# Altium integrated library Linear Technology Power Management Power Control.IntLib: 661 symbols (part 41 of 43)
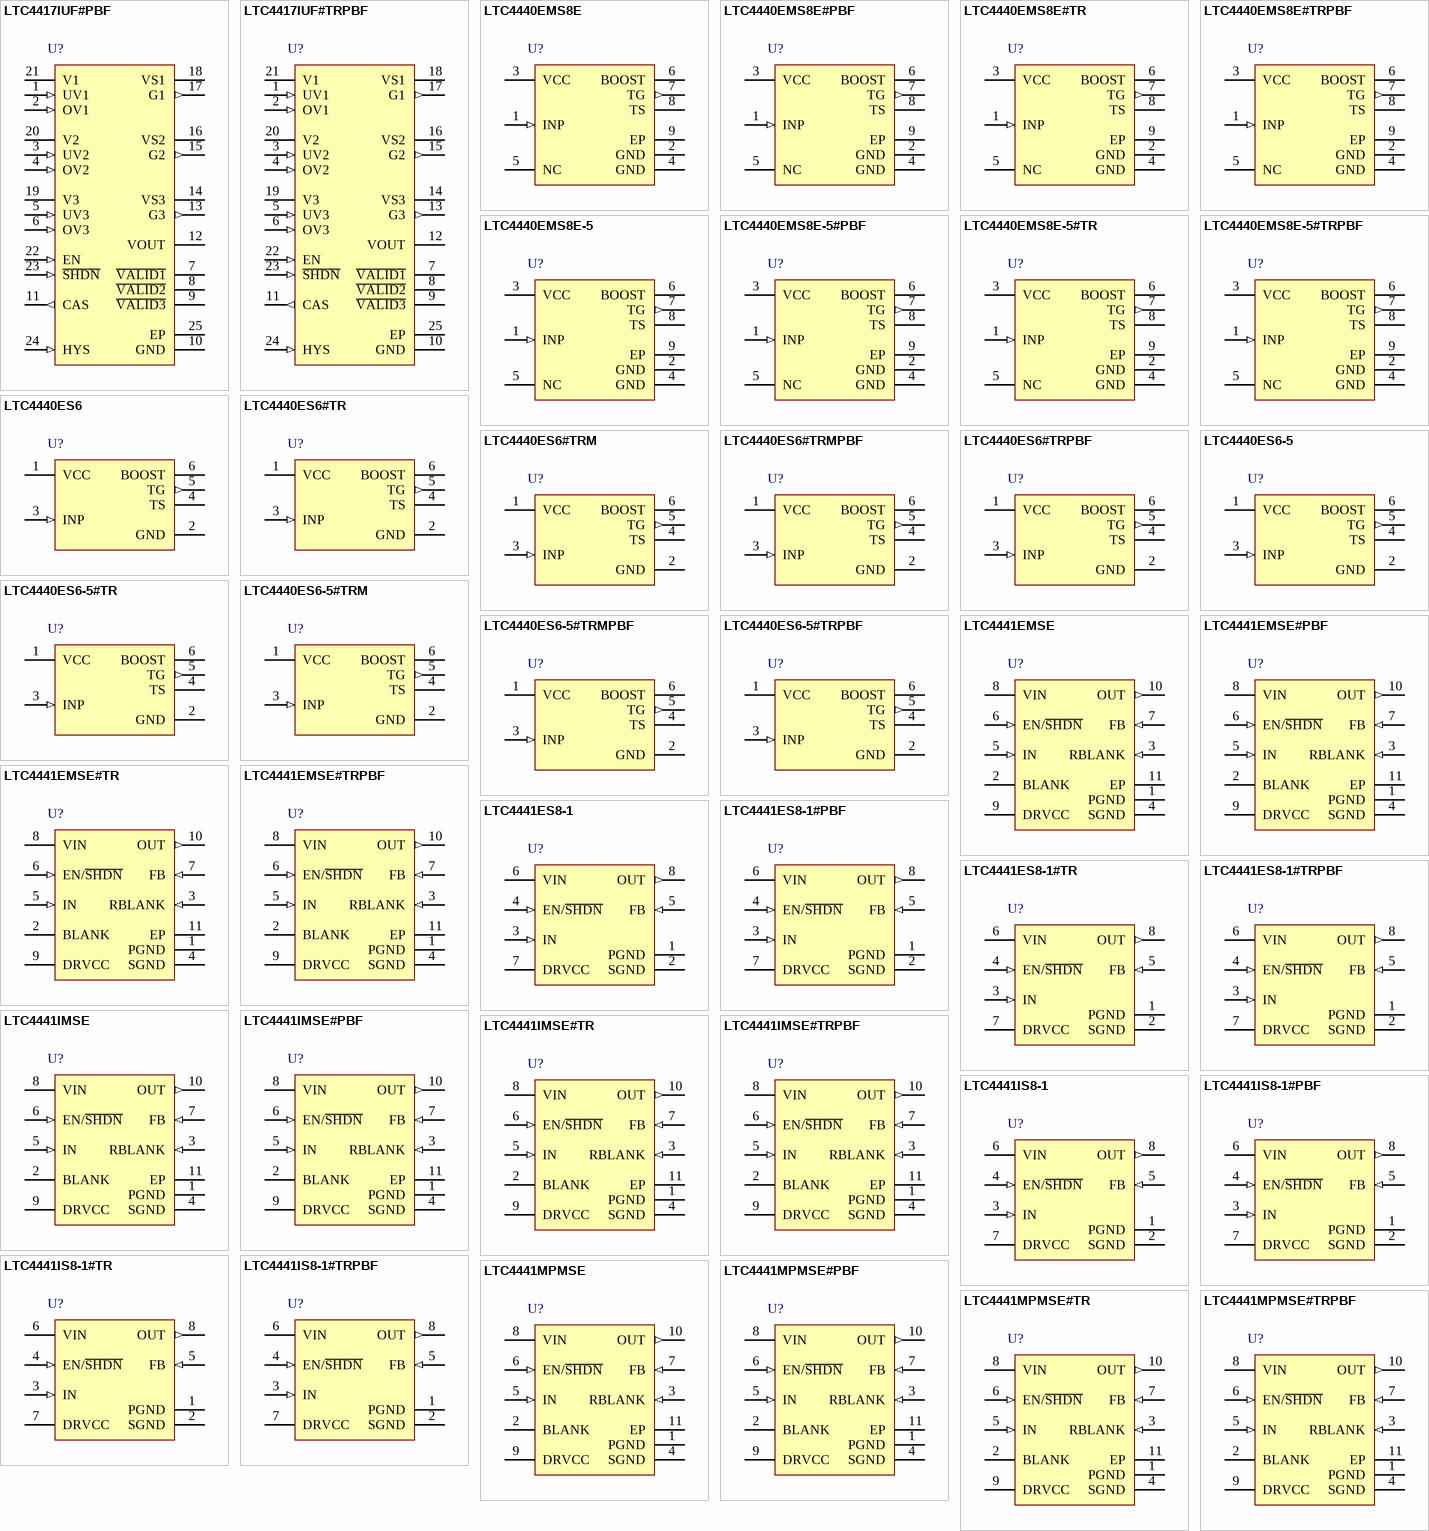
[diagram p59: symbols LTC4417IUF#PBF to LTC4441MPMSE#TRPBF]

## LTC4441IMSE#PBF
designator U?
6 A Peak Output Current, Adjustable Blanking Time for MOSFETs Current Sense Signal, 25 V Vin MAX, 10-pin SOP (MSE-10-EDP), -40 to 125 degC, Pb-Free; Manufacturer: Linear Technology; PartNumber: LTC4441IMSE#PBF; DatasheetVersion: Rev. A; PackageVersion: Rev. I, 05/2013; PackageReference: MSE-10; PackageDescription: 10-Pin Plastic MSOP, Exposed Die Pad, Body 3 x 3 mm, Pitch 0.5 mm; Supplier 1: Digi-Key; Supplier Part Number 1: LTC4441IMSE#PBF-ND; RoHS: TRUE; Mounting Technology: Surface Mount; ComponentLink1Description: Manufacturer URL; ComponentLink1URL: http://www.linear.com/; ComponentLink2Description: Datasheet; ComponentLink2URL: http://cds.linear.com/docs/en/datasheet/44411fa.pdf; ComponentLink3Description: Package Specification; ComponentLink3URL: http://cds.linear.com/docs/en/packaging/05081664_I_MSE.pdf
footprint LT-MSE-10-EDP_N (SOP, 10-Leads, Body 3.1x3.1mm, Pitch 0.5mm, Thermal Pad 1.88x1.68mm, IPC Medium Density)
footprint LT-MSE-10-EDP_L (SOP, 10-Leads, Body 3.1x3.1mm, Pitch 0.5mm, Thermal Pad 1.88x1.68mm, IPC High Density)
footprint LT-MSE-10-EDP_M (SOP, 10-Leads, Body 3.1x3.1mm, Pitch 0.5mm, Thermal Pad 1.88x1.68mm, IPC Low Density)
pins: 1 PGND (power) "Driver Ground. Connect the DRVCC bypass capacitor directly to this pin, as close as possible to the IC. In addition, connect the PGND and SGND pins together close to the IC, and then connect this node to the source of the (See Datasheet)", 2 BLANK (hiz) "Current Sense Blanking Output. Use this pin to assert a blanking time in the power MOSFET’s source current sense signal. The LTC4441 pulls this opendrain output to SGND if the driver output is low. The output becomes hig(See Datasheet)", 3 RBLANK (in) "Blanking Time Adjust Input. Connect a resistor from this pin to SGND to set the blanking time. A small resistor value gives a shorter delay. Leave this pin floating if the BLANK pin is not used.", 4 SGND (power) "Signal Ground. Ground return for the DRVCC regulator and low power circuitry.", 5 IN (in) "Driver Logic Input. This is the noninverting driver input under normal operating conditions.", 6 EN/~{SHDN} (in) "Enable/S\h\u\t\d\o\w\n\ Input. Pulling this pin above 1.21V allows the driver to switch. Pulling this pin below 1.09V forces the driver output to go low. Pulling this pin below 0.45V forces the LTC4441/LTC4441-1 into (See Datasheet)", 7 FB (in) "DRVCC Regulator Feedback Input. Connect this pin to the center tap of an external resistive divider between DRVCC and SGND to program the DRVCC regulator output voltage. To ensure loop stability, use the value of 330kohm for (See Datasheet)", 8 VIN (power) "Main Supply Input. This pin powers the DRVCC linear regulator. Bypass this pin to SGND with a 1uF ceramic, tantalum or other low ESR capacitor in close proximity to the LTC4441/LTC4441-1.", 9 DRVCC (power) "Linear Regulator Output. This output pin powers the driver and the control circuitry. Bypass this pin to PGND using a 10uF ceramic, low ESR (X5R or X7R) capacitor in close proximity to the LTC4441/LTC4441-1.", 10 OUT (out) "Driver Output.", 11 EP (power) "Ground. The exposed pad must be soldered to the PCB ground."

## LTC4441IMSE#TR
designator U?
6 A Peak Output Current, Adjustable Blanking Time for MOSFETs Current Sense Signal, 25 V Vin MAX, 10-pin SOP (MSE-10-EDP), -40 to 125 degC, Tape and Reel; Manufacturer: Linear Technology; PartNumber: LTC4441IMSE#TR; DatasheetVersion: Rev. A; PackageVersion: Rev. I, 05/2013; PackageReference: MSE-10; PackageDescription: 10-Pin Plastic MSOP, Exposed Die Pad, Body 3 x 3 mm, Pitch 0.5 mm; Packing: Tape and Reel; RoHS: FALSE; Mounting Technology: Surface Mount; ComponentLink1Description: Manufacturer URL; ComponentLink1URL: http://www.linear.com/; ComponentLink2Description: Datasheet; ComponentLink2URL: http://cds.linear.com/docs/en/datasheet/44411fa.pdf; ComponentLink3Description: Package Specification; ComponentLink3URL: http://cds.linear.com/docs/en/packaging/05081664_I_MSE.pdf
footprint LT-MSE-10-EDP_N (SOP, 10-Leads, Body 3.1x3.1mm, Pitch 0.5mm, Thermal Pad 1.88x1.68mm, IPC Medium Density)
footprint LT-MSE-10-EDP_L (SOP, 10-Leads, Body 3.1x3.1mm, Pitch 0.5mm, Thermal Pad 1.88x1.68mm, IPC High Density)
footprint LT-MSE-10-EDP_M (SOP, 10-Leads, Body 3.1x3.1mm, Pitch 0.5mm, Thermal Pad 1.88x1.68mm, IPC Low Density)
pins: 1 PGND (power) "Driver Ground. Connect the DRVCC bypass capacitor directly to this pin, as close as possible to the IC. In addition, connect the PGND and SGND pins together close to the IC, and then connect this node to the source of the (See Datasheet)", 2 BLANK (hiz) "Current Sense Blanking Output. Use this pin to assert a blanking time in the power MOSFET’s source current sense signal. The LTC4441 pulls this opendrain output to SGND if the driver output is low. The output becomes hig(See Datasheet)", 3 RBLANK (in) "Blanking Time Adjust Input. Connect a resistor from this pin to SGND to set the blanking time. A small resistor value gives a shorter delay. Leave this pin floating if the BLANK pin is not used.", 4 SGND (power) "Signal Ground. Ground return for the DRVCC regulator and low power circuitry.", 5 IN (in) "Driver Logic Input. This is the noninverting driver input under normal operating conditions.", 6 EN/~{SHDN} (in) "Enable/S\h\u\t\d\o\w\n\ Input. Pulling this pin above 1.21V allows the driver to switch. Pulling this pin below 1.09V forces the driver output to go low. Pulling this pin below 0.45V forces the LTC4441/LTC4441-1 into (See Datasheet)", 7 FB (in) "DRVCC Regulator Feedback Input. Connect this pin to the center tap of an external resistive divider between DRVCC and SGND to program the DRVCC regulator output voltage. To ensure loop stability, use the value of 330kohm for (See Datasheet)", 8 VIN (power) "Main Supply Input. This pin powers the DRVCC linear regulator. Bypass this pin to SGND with a 1uF ceramic, tantalum or other low ESR capacitor in close proximity to the LTC4441/LTC4441-1.", 9 DRVCC (power) "Linear Regulator Output. This output pin powers the driver and the control circuitry. Bypass this pin to PGND using a 10uF ceramic, low ESR (X5R or X7R) capacitor in close proximity to the LTC4441/LTC4441-1.", 10 OUT (out) "Driver Output.", 11 EP (power) "Ground. The exposed pad must be soldered to the PCB ground."

## LTC4441IMSE#TRPBF
designator U?
6 A Peak Output Current, Adjustable Blanking Time for MOSFETs Current Sense Signal, 25 V Vin MAX, 10-pin SOP (MSE-10-EDP), -40 to 125 degC, Pb-Free, Tape and Reel; Manufacturer: Linear Technology; PartNumber: LTC4441IMSE#TRPBF; DatasheetVersion: Rev. A; PackageVersion: Rev. I, 05/2013; PackageReference: MSE-10; PackageDescription: 10-Pin Plastic MSOP, Exposed Die Pad, Body 3 x 3 mm, Pitch 0.5 mm; Supplier 1: Digi-Key; Supplier Part Number 1: LTC4441IMSE#TRPBF-ND; Packing: Tape and Reel; RoHS: TRUE; Mounting Technology: Surface Mount; ComponentLink1Description: Manufacturer URL; ComponentLink1URL: http://www.linear.com/; ComponentLink2Description: Datasheet; ComponentLink2URL: http://cds.linear.com/docs/en/datasheet/44411fa.pdf; ComponentLink3Description: Package Specification; ComponentLink3URL: http://cds.linear.com/docs/en/packaging/05081664_I_MSE.pdf
footprint LT-MSE-10-EDP_N (SOP, 10-Leads, Body 3.1x3.1mm, Pitch 0.5mm, Thermal Pad 1.88x1.68mm, IPC Medium Density)
footprint LT-MSE-10-EDP_L (SOP, 10-Leads, Body 3.1x3.1mm, Pitch 0.5mm, Thermal Pad 1.88x1.68mm, IPC High Density)
footprint LT-MSE-10-EDP_M (SOP, 10-Leads, Body 3.1x3.1mm, Pitch 0.5mm, Thermal Pad 1.88x1.68mm, IPC Low Density)
pins: 1 PGND (power) "Driver Ground. Connect the DRVCC bypass capacitor directly to this pin, as close as possible to the IC. In addition, connect the PGND and SGND pins together close to the IC, and then connect this node to the source of the (See Datasheet)", 2 BLANK (hiz) "Current Sense Blanking Output. Use this pin to assert a blanking time in the power MOSFET’s source current sense signal. The LTC4441 pulls this opendrain output to SGND if the driver output is low. The output becomes hig(See Datasheet)", 3 RBLANK (in) "Blanking Time Adjust Input. Connect a resistor from this pin to SGND to set the blanking time. A small resistor value gives a shorter delay. Leave this pin floating if the BLANK pin is not used.", 4 SGND (power) "Signal Ground. Ground return for the DRVCC regulator and low power circuitry.", 5 IN (in) "Driver Logic Input. This is the noninverting driver input under normal operating conditions.", 6 EN/~{SHDN} (in) "Enable/S\h\u\t\d\o\w\n\ Input. Pulling this pin above 1.21V allows the driver to switch. Pulling this pin below 1.09V forces the driver output to go low. Pulling this pin below 0.45V forces the LTC4441/LTC4441-1 into (See Datasheet)", 7 FB (in) "DRVCC Regulator Feedback Input. Connect this pin to the center tap of an external resistive divider between DRVCC and SGND to program the DRVCC regulator output voltage. To ensure loop stability, use the value of 330kohm for (See Datasheet)", 8 VIN (power) "Main Supply Input. This pin powers the DRVCC linear regulator. Bypass this pin to SGND with a 1uF ceramic, tantalum or other low ESR capacitor in close proximity to the LTC4441/LTC4441-1.", 9 DRVCC (power) "Linear Regulator Output. This output pin powers the driver and the control circuitry. Bypass this pin to PGND using a 10uF ceramic, low ESR (X5R or X7R) capacitor in close proximity to the LTC4441/LTC4441-1.", 10 OUT (out) "Driver Output.", 11 EP (power) "Ground. The exposed pad must be soldered to the PCB ground."

## LTC4441IS8-1
designator U?
6 A Peak Output Current, 25 V Vin MAX, 8-pin SOIC (S8-8), -40 to 125 degC; Manufacturer: Linear Technology; PartNumber: LTC4441IS8-1; DatasheetVersion: Rev. A; PackageVersion: Rev. G, 03/2012; PackageReference: S8-8; PackageDescription: 8-Pin Plastic Small Outline (Narrow .150 Inch), Body 4.9 x 3.9 mm, Pitch 1.27 mm; RoHS: FALSE; Mounting Technology: Surface Mount; ComponentLink1Description: Manufacturer URL; ComponentLink1URL: http://www.linear.com/; ComponentLink2Description: Datasheet; ComponentLink2URL: http://cds.linear.com/docs/en/datasheet/44411fa.pdf; ComponentLink3Description: Package Specification; ComponentLink3URL: http://cds.linear.com/docs/en/packaging/05081610_G_SO8.pdf
footprint LT-S8-8_N (SOIC, 8-Leads, Body 5x4mm, Pitch 1.27mm, IPC Medium Density)
footprint LT-S8-8_L (SOIC, 8-Leads, Body 5x4mm, Pitch 1.27mm, IPC High Density)
footprint LT-S8-8_M (SOIC, 8-Leads, Body 5x4mm, Pitch 1.27mm, IPC Low Density)
pins: 1 PGND (power) "Driver Ground. Connect the DRVCC bypass capacitor directly to this pin, as close as possible to the IC. In addition, connect the PGND and SGND pins together close to the IC, and then connect this node to the source of the (See Datasheet)", 2 SGND (power) "Signal Ground. Ground return for the DRVCC regulator and low power circuitry.", 3 IN (in) "Driver Logic Input. This is the noninverting driver input under normal operating conditions.", 4 EN/~{SHDN} (in) "Enable/S\h\u\t\d\o\w\n\ Input. Pulling this pin above 1.21V allows the driver to switch. Pulling this pin below 1.09V forces the driver output to go low. Pulling this pin below 0.45V forces the LTC4441/LTC4441-1 into (See Datasheet)", 5 FB (in) "DRVCC Regulator Feedback Input. Connect this pin to the center tap of an external resistive divider between DRVCC and SGND to program the DRVCC regulator output voltage. To ensure loop stability, use the value of 330kohm for (See Datasheet)", 6 VIN (power) "Main Supply Input. This pin powers the DRVCC linear regulator. Bypass this pin to SGND with a 1uF ceramic, tantalum or other low ESR capacitor in close proximity to the LTC4441/LTC4441-1.", 7 DRVCC (power) "Linear Regulator Output. This output pin powers the driver and the control circuitry. Bypass this pin to PGND using a 10uF ceramic, low ESR (X5R or X7R) capacitor in close proximity to the LTC4441/LTC4441-1.", 8 OUT (out) "Driver Output."

## LTC4441IS8-1#PBF
designator U?
6 A Peak Output Current, 25 V Vin MAX, 8-pin SOIC (S8-8), -40 to 125 degC, Pb-Free; Manufacturer: Linear Technology; PartNumber: LTC4441IS8-1#PBF; DatasheetVersion: Rev. A; PackageVersion: Rev. G, 03/2012; PackageReference: S8-8; PackageDescription: 8-Pin Plastic Small Outline (Narrow .150 Inch), Body 4.9 x 3.9 mm, Pitch 1.27 mm; Supplier 1: Digi-Key; Supplier Part Number 1: LTC4441IS8-1#PBF-ND; RoHS: TRUE; Mounting Technology: Surface Mount; ComponentLink1Description: Manufacturer URL; ComponentLink1URL: http://www.linear.com/; ComponentLink2Description: Datasheet; ComponentLink2URL: http://cds.linear.com/docs/en/datasheet/44411fa.pdf; ComponentLink3Description: Package Specification; ComponentLink3URL: http://cds.linear.com/docs/en/packaging/05081610_G_SO8.pdf
footprint LT-S8-8_N (SOIC, 8-Leads, Body 5x4mm, Pitch 1.27mm, IPC Medium Density)
footprint LT-S8-8_L (SOIC, 8-Leads, Body 5x4mm, Pitch 1.27mm, IPC High Density)
footprint LT-S8-8_M (SOIC, 8-Leads, Body 5x4mm, Pitch 1.27mm, IPC Low Density)
pins: 1 PGND (power) "Driver Ground. Connect the DRVCC bypass capacitor directly to this pin, as close as possible to the IC. In addition, connect the PGND and SGND pins together close to the IC, and then connect this node to the source of the (See Datasheet)", 2 SGND (power) "Signal Ground. Ground return for the DRVCC regulator and low power circuitry.", 3 IN (in) "Driver Logic Input. This is the noninverting driver input under normal operating conditions.", 4 EN/~{SHDN} (in) "Enable/S\h\u\t\d\o\w\n\ Input. Pulling this pin above 1.21V allows the driver to switch. Pulling this pin below 1.09V forces the driver output to go low. Pulling this pin below 0.45V forces the LTC4441/LTC4441-1 into (See Datasheet)", 5 FB (in) "DRVCC Regulator Feedback Input. Connect this pin to the center tap of an external resistive divider between DRVCC and SGND to program the DRVCC regulator output voltage. To ensure loop stability, use the value of 330kohm for (See Datasheet)", 6 VIN (power) "Main Supply Input. This pin powers the DRVCC linear regulator. Bypass this pin to SGND with a 1uF ceramic, tantalum or other low ESR capacitor in close proximity to the LTC4441/LTC4441-1.", 7 DRVCC (power) "Linear Regulator Output. This output pin powers the driver and the control circuitry. Bypass this pin to PGND using a 10uF ceramic, low ESR (X5R or X7R) capacitor in close proximity to the LTC4441/LTC4441-1.", 8 OUT (out) "Driver Output."

## LTC4441IS8-1#TR
designator U?
6 A Peak Output Current, 25 V Vin MAX, 8-pin SOIC (S8-8), -40 to 125 degC, Tape and Reel; Manufacturer: Linear Technology; PartNumber: LTC4441IS8-1#TR; DatasheetVersion: Rev. A; PackageVersion: Rev. G, 03/2012; PackageReference: S8-8; PackageDescription: 8-Pin Plastic Small Outline (Narrow .150 Inch), Body 4.9 x 3.9 mm, Pitch 1.27 mm; Packing: Tape and Reel; RoHS: FALSE; Mounting Technology: Surface Mount; ComponentLink1Description: Manufacturer URL; ComponentLink1URL: http://www.linear.com/; ComponentLink2Description: Datasheet; ComponentLink2URL: http://cds.linear.com/docs/en/datasheet/44411fa.pdf; ComponentLink3Description: Package Specification; ComponentLink3URL: http://cds.linear.com/docs/en/packaging/05081610_G_SO8.pdf
footprint LT-S8-8_N (SOIC, 8-Leads, Body 5x4mm, Pitch 1.27mm, IPC Medium Density)
footprint LT-S8-8_L (SOIC, 8-Leads, Body 5x4mm, Pitch 1.27mm, IPC High Density)
footprint LT-S8-8_M (SOIC, 8-Leads, Body 5x4mm, Pitch 1.27mm, IPC Low Density)
pins: 1 PGND (power) "Driver Ground. Connect the DRVCC bypass capacitor directly to this pin, as close as possible to the IC. In addition, connect the PGND and SGND pins together close to the IC, and then connect this node to the source of the (See Datasheet)", 2 SGND (power) "Signal Ground. Ground return for the DRVCC regulator and low power circuitry.", 3 IN (in) "Driver Logic Input. This is the noninverting driver input under normal operating conditions.", 4 EN/~{SHDN} (in) "Enable/S\h\u\t\d\o\w\n\ Input. Pulling this pin above 1.21V allows the driver to switch. Pulling this pin below 1.09V forces the driver output to go low. Pulling this pin below 0.45V forces the LTC4441/LTC4441-1 into (See Datasheet)", 5 FB (in) "DRVCC Regulator Feedback Input. Connect this pin to the center tap of an external resistive divider between DRVCC and SGND to program the DRVCC regulator output voltage. To ensure loop stability, use the value of 330kohm for (See Datasheet)", 6 VIN (power) "Main Supply Input. This pin powers the DRVCC linear regulator. Bypass this pin to SGND with a 1uF ceramic, tantalum or other low ESR capacitor in close proximity to the LTC4441/LTC4441-1.", 7 DRVCC (power) "Linear Regulator Output. This output pin powers the driver and the control circuitry. Bypass this pin to PGND using a 10uF ceramic, low ESR (X5R or X7R) capacitor in close proximity to the LTC4441/LTC4441-1.", 8 OUT (out) "Driver Output."

## LTC4441IS8-1#TRPBF
designator U?
6 A Peak Output Current, 25 V Vin MAX, 8-pin SOIC (S8-8), -40 to 125 degC, Pb-Free, Tape and Reel; Manufacturer: Linear Technology; PartNumber: LTC4441IS8-1#TRPBF; DatasheetVersion: Rev. A; PackageVersion: Rev. G, 03/2012; PackageReference: S8-8; PackageDescription: 8-Pin Plastic Small Outline (Narrow .150 Inch), Body 4.9 x 3.9 mm, Pitch 1.27 mm; Supplier 1: Digi-Key; Supplier Part Number 1: LTC4441IS8-1#TRPBF-ND; Packing: Tape and Reel; RoHS: TRUE; Mounting Technology: Surface Mount; ComponentLink1Description: Manufacturer URL; ComponentLink1URL: http://www.linear.com/; ComponentLink2Description: Datasheet; ComponentLink2URL: http://cds.linear.com/docs/en/datasheet/44411fa.pdf; ComponentLink3Description: Package Specification; ComponentLink3URL: http://cds.linear.com/docs/en/packaging/05081610_G_SO8.pdf
footprint LT-S8-8_N (SOIC, 8-Leads, Body 5x4mm, Pitch 1.27mm, IPC Medium Density)
footprint LT-S8-8_L (SOIC, 8-Leads, Body 5x4mm, Pitch 1.27mm, IPC High Density)
footprint LT-S8-8_M (SOIC, 8-Leads, Body 5x4mm, Pitch 1.27mm, IPC Low Density)
pins: 1 PGND (power) "Driver Ground. Connect the DRVCC bypass capacitor directly to this pin, as close as possible to the IC. In addition, connect the PGND and SGND pins together close to the IC, and then connect this node to the source of the (See Datasheet)", 2 SGND (power) "Signal Ground. Ground return for the DRVCC regulator and low power circuitry.", 3 IN (in) "Driver Logic Input. This is the noninverting driver input under normal operating conditions.", 4 EN/~{SHDN} (in) "Enable/S\h\u\t\d\o\w\n\ Input. Pulling this pin above 1.21V allows the driver to switch. Pulling this pin below 1.09V forces the driver output to go low. Pulling this pin below 0.45V forces the LTC4441/LTC4441-1 into (See Datasheet)", 5 FB (in) "DRVCC Regulator Feedback Input. Connect this pin to the center tap of an external resistive divider between DRVCC and SGND to program the DRVCC regulator output voltage. To ensure loop stability, use the value of 330kohm for (See Datasheet)", 6 VIN (power) "Main Supply Input. This pin powers the DRVCC linear regulator. Bypass this pin to SGND with a 1uF ceramic, tantalum or other low ESR capacitor in close proximity to the LTC4441/LTC4441-1.", 7 DRVCC (power) "Linear Regulator Output. This output pin powers the driver and the control circuitry. Bypass this pin to PGND using a 10uF ceramic, low ESR (X5R or X7R) capacitor in close proximity to the LTC4441/LTC4441-1.", 8 OUT (out) "Driver Output."

## LTC4441MPMSE
designator U?
6 A Peak Output Current, Adjustable Blanking Time for MOSFETs Current Sense Signal, 25 V Vin MAX, 10-pin SOP (MSE-10-EDP), -55 to 125 degC; Manufacturer: Linear Technology; PartNumber: LTC4441MPMSE; DatasheetVersion: Rev. A; PackageVersion: Rev. I, 05/2013; PackageReference: MSE-10; PackageDescription: 10-Pin Plastic MSOP, Exposed Die Pad, Body 3 x 3 mm, Pitch 0.5 mm; RoHS: FALSE; Mounting Technology: Surface Mount; ComponentLink1Description: Manufacturer URL; ComponentLink1URL: http://www.linear.com/; ComponentLink2Description: Datasheet; ComponentLink2URL: http://cds.linear.com/docs/en/datasheet/44411fa.pdf; ComponentLink3Description: Package Specification; ComponentLink3URL: http://cds.linear.com/docs/en/packaging/05081664_I_MSE.pdf
footprint LT-MSE-10-EDP_N (SOP, 10-Leads, Body 3.1x3.1mm, Pitch 0.5mm, Thermal Pad 1.88x1.68mm, IPC Medium Density)
footprint LT-MSE-10-EDP_L (SOP, 10-Leads, Body 3.1x3.1mm, Pitch 0.5mm, Thermal Pad 1.88x1.68mm, IPC High Density)
footprint LT-MSE-10-EDP_M (SOP, 10-Leads, Body 3.1x3.1mm, Pitch 0.5mm, Thermal Pad 1.88x1.68mm, IPC Low Density)
pins: 1 PGND (power) "Driver Ground. Connect the DRVCC bypass capacitor directly to this pin, as close as possible to the IC. In addition, connect the PGND and SGND pins together close to the IC, and then connect this node to the source of the (See Datasheet)", 2 BLANK (hiz) "Current Sense Blanking Output. Use this pin to assert a blanking time in the power MOSFET’s source current sense signal. The LTC4441 pulls this opendrain output to SGND if the driver output is low. The output becomes hig(See Datasheet)", 3 RBLANK (in) "Blanking Time Adjust Input. Connect a resistor from this pin to SGND to set the blanking time. A small resistor value gives a shorter delay. Leave this pin floating if the BLANK pin is not used.", 4 SGND (power) "Signal Ground. Ground return for the DRVCC regulator and low power circuitry.", 5 IN (in) "Driver Logic Input. This is the noninverting driver input under normal operating conditions.", 6 EN/~{SHDN} (in) "Enable/S\h\u\t\d\o\w\n\ Input. Pulling this pin above 1.21V allows the driver to switch. Pulling this pin below 1.09V forces the driver output to go low. Pulling this pin below 0.45V forces the LTC4441/LTC4441-1 into (See Datasheet)", 7 FB (in) "DRVCC Regulator Feedback Input. Connect this pin to the center tap of an external resistive divider between DRVCC and SGND to program the DRVCC regulator output voltage. To ensure loop stability, use the value of 330kohm for (See Datasheet)", 8 VIN (power) "Main Supply Input. This pin powers the DRVCC linear regulator. Bypass this pin to SGND with a 1uF ceramic, tantalum or other low ESR capacitor in close proximity to the LTC4441/LTC4441-1.", 9 DRVCC (power) "Linear Regulator Output. This output pin powers the driver and the control circuitry. Bypass this pin to PGND using a 10uF ceramic, low ESR (X5R or X7R) capacitor in close proximity to the LTC4441/LTC4441-1.", 10 OUT (out) "Driver Output.", 11 EP (power) "Ground. The exposed pad must be soldered to the PCB ground."

## LTC4441MPMSE#PBF
designator U?
6 A Peak Output Current, Adjustable Blanking Time for MOSFETs Current Sense Signal, 25 V Vin MAX, 10-pin SOP (MSE-10-EDP), -55 to 125 degC, Pb-Free; Manufacturer: Linear Technology; PartNumber: LTC4441MPMSE#PBF; DatasheetVersion: Rev. A; PackageVersion: Rev. I, 05/2013; PackageReference: MSE-10; PackageDescription: 10-Pin Plastic MSOP, Exposed Die Pad, Body 3 x 3 mm, Pitch 0.5 mm; Supplier 1: Digi-Key; Supplier Part Number 1: LTC4441MPMSE#PBF-ND; RoHS: TRUE; Mounting Technology: Surface Mount; ComponentLink1Description: Manufacturer URL; ComponentLink1URL: http://www.linear.com/; ComponentLink2Description: Datasheet; ComponentLink2URL: http://cds.linear.com/docs/en/datasheet/44411fa.pdf; ComponentLink3Description: Package Specification; ComponentLink3URL: http://cds.linear.com/docs/en/packaging/05081664_I_MSE.pdf
footprint LT-MSE-10-EDP_N (SOP, 10-Leads, Body 3.1x3.1mm, Pitch 0.5mm, Thermal Pad 1.88x1.68mm, IPC Medium Density)
footprint LT-MSE-10-EDP_L (SOP, 10-Leads, Body 3.1x3.1mm, Pitch 0.5mm, Thermal Pad 1.88x1.68mm, IPC High Density)
footprint LT-MSE-10-EDP_M (SOP, 10-Leads, Body 3.1x3.1mm, Pitch 0.5mm, Thermal Pad 1.88x1.68mm, IPC Low Density)
pins: 1 PGND (power) "Driver Ground. Connect the DRVCC bypass capacitor directly to this pin, as close as possible to the IC. In addition, connect the PGND and SGND pins together close to the IC, and then connect this node to the source of the (See Datasheet)", 2 BLANK (hiz) "Current Sense Blanking Output. Use this pin to assert a blanking time in the power MOSFET’s source current sense signal. The LTC4441 pulls this opendrain output to SGND if the driver output is low. The output becomes hig(See Datasheet)", 3 RBLANK (in) "Blanking Time Adjust Input. Connect a resistor from this pin to SGND to set the blanking time. A small resistor value gives a shorter delay. Leave this pin floating if the BLANK pin is not used.", 4 SGND (power) "Signal Ground. Ground return for the DRVCC regulator and low power circuitry.", 5 IN (in) "Driver Logic Input. This is the noninverting driver input under normal operating conditions.", 6 EN/~{SHDN} (in) "Enable/S\h\u\t\d\o\w\n\ Input. Pulling this pin above 1.21V allows the driver to switch. Pulling this pin below 1.09V forces the driver output to go low. Pulling this pin below 0.45V forces the LTC4441/LTC4441-1 into (See Datasheet)", 7 FB (in) "DRVCC Regulator Feedback Input. Connect this pin to the center tap of an external resistive divider between DRVCC and SGND to program the DRVCC regulator output voltage. To ensure loop stability, use the value of 330kohm for (See Datasheet)", 8 VIN (power) "Main Supply Input. This pin powers the DRVCC linear regulator. Bypass this pin to SGND with a 1uF ceramic, tantalum or other low ESR capacitor in close proximity to the LTC4441/LTC4441-1.", 9 DRVCC (power) "Linear Regulator Output. This output pin powers the driver and the control circuitry. Bypass this pin to PGND using a 10uF ceramic, low ESR (X5R or X7R) capacitor in close proximity to the LTC4441/LTC4441-1.", 10 OUT (out) "Driver Output.", 11 EP (power) "Ground. The exposed pad must be soldered to the PCB ground."

## LTC4441MPMSE#TR
designator U?
6 A Peak Output Current, Adjustable Blanking Time for MOSFETs Current Sense Signal, 25 V Vin MAX, 10-pin SOP (MSE-10-EDP), -55 to 125 degC, Tape and Reel; Manufacturer: Linear Technology; PartNumber: LTC4441MPMSE#TR; DatasheetVersion: Rev. A; PackageVersion: Rev. I, 05/2013; PackageReference: MSE-10; PackageDescription: 10-Pin Plastic MSOP, Exposed Die Pad, Body 3 x 3 mm, Pitch 0.5 mm; Packing: Tape and Reel; RoHS: FALSE; Mounting Technology: Surface Mount; ComponentLink1Description: Manufacturer URL; ComponentLink1URL: http://www.linear.com/; ComponentLink2Description: Datasheet; ComponentLink2URL: http://cds.linear.com/docs/en/datasheet/44411fa.pdf; ComponentLink3Description: Package Specification; ComponentLink3URL: http://cds.linear.com/docs/en/packaging/05081664_I_MSE.pdf
footprint LT-MSE-10-EDP_N (SOP, 10-Leads, Body 3.1x3.1mm, Pitch 0.5mm, Thermal Pad 1.88x1.68mm, IPC Medium Density)
footprint LT-MSE-10-EDP_L (SOP, 10-Leads, Body 3.1x3.1mm, Pitch 0.5mm, Thermal Pad 1.88x1.68mm, IPC High Density)
footprint LT-MSE-10-EDP_M (SOP, 10-Leads, Body 3.1x3.1mm, Pitch 0.5mm, Thermal Pad 1.88x1.68mm, IPC Low Density)
pins: 1 PGND (power) "Driver Ground. Connect the DRVCC bypass capacitor directly to this pin, as close as possible to the IC. In addition, connect the PGND and SGND pins together close to the IC, and then connect this node to the source of the (See Datasheet)", 2 BLANK (hiz) "Current Sense Blanking Output. Use this pin to assert a blanking time in the power MOSFET’s source current sense signal. The LTC4441 pulls this opendrain output to SGND if the driver output is low. The output becomes hig(See Datasheet)", 3 RBLANK (in) "Blanking Time Adjust Input. Connect a resistor from this pin to SGND to set the blanking time. A small resistor value gives a shorter delay. Leave this pin floating if the BLANK pin is not used.", 4 SGND (power) "Signal Ground. Ground return for the DRVCC regulator and low power circuitry.", 5 IN (in) "Driver Logic Input. This is the noninverting driver input under normal operating conditions.", 6 EN/~{SHDN} (in) "Enable/S\h\u\t\d\o\w\n\ Input. Pulling this pin above 1.21V allows the driver to switch. Pulling this pin below 1.09V forces the driver output to go low. Pulling this pin below 0.45V forces the LTC4441/LTC4441-1 into (See Datasheet)", 7 FB (in) "DRVCC Regulator Feedback Input. Connect this pin to the center tap of an external resistive divider between DRVCC and SGND to program the DRVCC regulator output voltage. To ensure loop stability, use the value of 330kohm for (See Datasheet)", 8 VIN (power) "Main Supply Input. This pin powers the DRVCC linear regulator. Bypass this pin to SGND with a 1uF ceramic, tantalum or other low ESR capacitor in close proximity to the LTC4441/LTC4441-1.", 9 DRVCC (power) "Linear Regulator Output. This output pin powers the driver and the control circuitry. Bypass this pin to PGND using a 10uF ceramic, low ESR (X5R or X7R) capacitor in close proximity to the LTC4441/LTC4441-1.", 10 OUT (out) "Driver Output.", 11 EP (power) "Ground. The exposed pad must be soldered to the PCB ground."

## LTC4441MPMSE#TRPBF
designator U?
6 A Peak Output Current, Adjustable Blanking Time for MOSFETs Current Sense Signal, 25 V Vin MAX, 10-pin SOP (MSE-10-EDP), -55 to 125 degC, Pb-Free, Tape and Reel; Manufacturer: Linear Technology; PartNumber: LTC4441MPMSE#TRPBF; DatasheetVersion: Rev. A; PackageVersion: Rev. I, 05/2013; PackageReference: MSE-10; PackageDescription: 10-Pin Plastic MSOP, Exposed Die Pad, Body 3 x 3 mm, Pitch 0.5 mm; Supplier 1: Digi-Key; Supplier Part Number 1: LTC4441MPMSE#TRPBF-ND; Packing: Tape and Reel; RoHS: TRUE; Mounting Technology: Surface Mount; ComponentLink1Description: Manufacturer URL; ComponentLink1URL: http://www.linear.com/; ComponentLink2Description: Datasheet; ComponentLink2URL: http://cds.linear.com/docs/en/datasheet/44411fa.pdf; ComponentLink3Description: Package Specification; ComponentLink3URL: http://cds.linear.com/docs/en/packaging/05081664_I_MSE.pdf
footprint LT-MSE-10-EDP_N (SOP, 10-Leads, Body 3.1x3.1mm, Pitch 0.5mm, Thermal Pad 1.88x1.68mm, IPC Medium Density)
footprint LT-MSE-10-EDP_L (SOP, 10-Leads, Body 3.1x3.1mm, Pitch 0.5mm, Thermal Pad 1.88x1.68mm, IPC High Density)
footprint LT-MSE-10-EDP_M (SOP, 10-Leads, Body 3.1x3.1mm, Pitch 0.5mm, Thermal Pad 1.88x1.68mm, IPC Low Density)
pins: 1 PGND (power) "Driver Ground. Connect the DRVCC bypass capacitor directly to this pin, as close as possible to the IC. In addition, connect the PGND and SGND pins together close to the IC, and then connect this node to the source of the (See Datasheet)", 2 BLANK (hiz) "Current Sense Blanking Output. Use this pin to assert a blanking time in the power MOSFET’s source current sense signal. The LTC4441 pulls this opendrain output to SGND if the driver output is low. The output becomes hig(See Datasheet)", 3 RBLANK (in) "Blanking Time Adjust Input. Connect a resistor from this pin to SGND to set the blanking time. A small resistor value gives a shorter delay. Leave this pin floating if the BLANK pin is not used.", 4 SGND (power) "Signal Ground. Ground return for the DRVCC regulator and low power circuitry.", 5 IN (in) "Driver Logic Input. This is the noninverting driver input under normal operating conditions.", 6 EN/~{SHDN} (in) "Enable/S\h\u\t\d\o\w\n\ Input. Pulling this pin above 1.21V allows the driver to switch. Pulling this pin below 1.09V forces the driver output to go low. Pulling this pin below 0.45V forces the LTC4441/LTC4441-1 into (See Datasheet)", 7 FB (in) "DRVCC Regulator Feedback Input. Connect this pin to the center tap of an external resistive divider between DRVCC and SGND to program the DRVCC regulator output voltage. To ensure loop stability, use the value of 330kohm for (See Datasheet)", 8 VIN (power) "Main Supply Input. This pin powers the DRVCC linear regulator. Bypass this pin to SGND with a 1uF ceramic, tantalum or other low ESR capacitor in close proximity to the LTC4441/LTC4441-1.", 9 DRVCC (power) "Linear Regulator Output. This output pin powers the driver and the control circuitry. Bypass this pin to PGND using a 10uF ceramic, low ESR (X5R or X7R) capacitor in close proximity to the LTC4441/LTC4441-1.", 10 OUT (out) "Driver Output.", 11 EP (power) "Ground. The exposed pad must be soldered to the PCB ground."

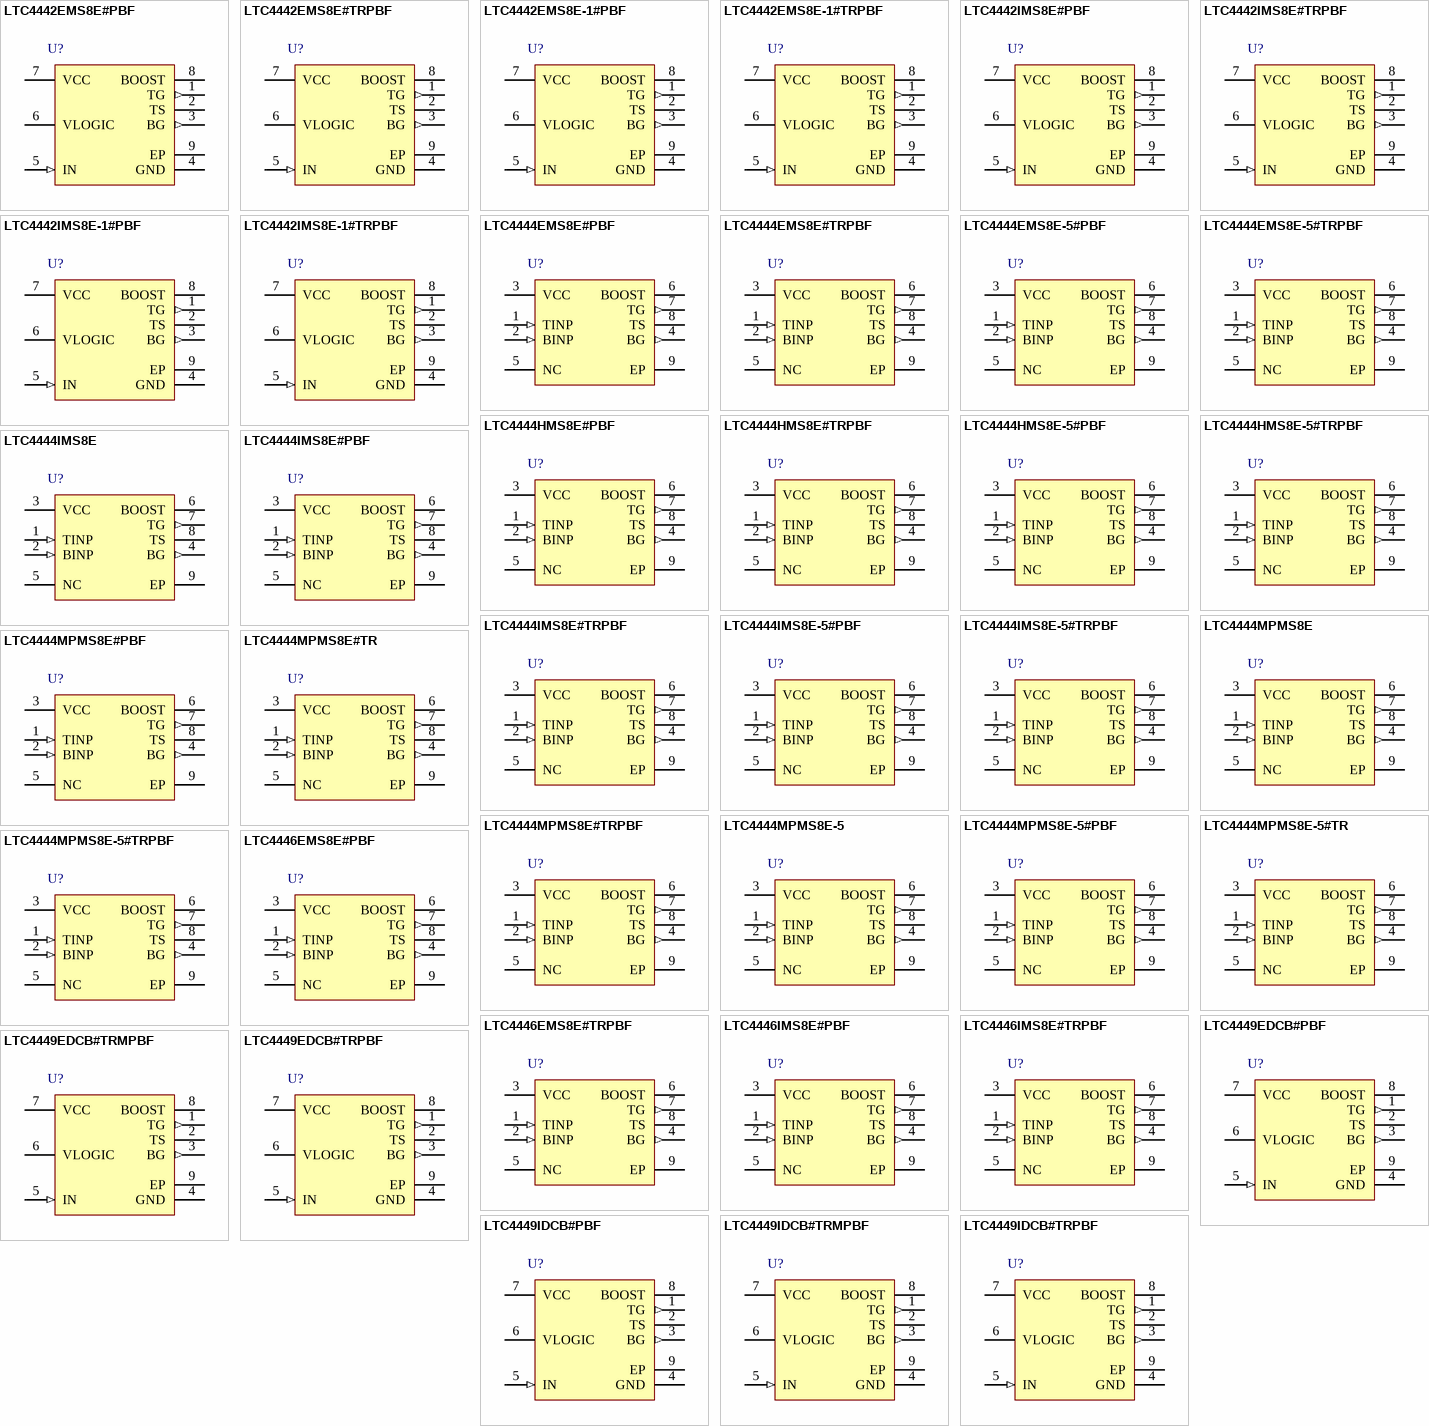
[diagram p19: symbols LTC4442EMS8E#PBF to LTC4449IDCB#TRPBF]

## LTC4442EMS8E#PBF
designator U?
High Speed Synchronous N-Channel MOSFET Driver, 3.2 V Undervoltage Lockout Threshold, 38 V Vin MAX, 8-pin SOP (MS8E-8), -40 to 85 degC, Pb-Free; Manufacturer: Linear Technology; PartNumber: LTC4442EMS8E#PBF; DatasheetVersion: Rev. B; PackageVersion: Rev. E; PackageReference: MS8E-8; PackageDescription: 8-Pin Plastic MSOP, Exposed Die Pad, Body 3 x 3 mm, Pitch 0.65 mm; Supplier 1: Digi-Key; Supplier Part Number 1: LTC4442EMS8E#PBF-ND; Supplier 2: Farnell; Supplier Part Number 2: 1715079; Supplier 3: Newark; Supplier Part Number 3: 79M3616; RoHS: TRUE; Mounting Technology: Surface Mount; ComponentLink1Description: Manufacturer URL; ComponentLink1URL: http://www.linear.com/; ComponentLink2Description: Datasheet; ComponentLink2URL: http://cds.linear.com/docs/en/datasheet/4442fb.pdf; ComponentLink3Description: Package Specification; ComponentLink3URL: http://cds.linear.com/docs/en/datasheet/4070fc.pdf
footprint LT-MS8E-8-2060X1830TP_N (SOP, 8-Leads, Body 3.1x3.1mm, Pitch 0.65mm, Thermal Pad 2.162x1.932mm, IPC Medium Density)
footprint LT-MS8E-8-2060X1830TP_L (SOP, 8-Leads, Body 3.1x3.1mm, Pitch 0.65mm, Thermal Pad 2.162x1.932mm, IPC High Density)
footprint LT-MS8E-8-2060X1830TP_M (SOP, 8-Leads, Body 3.1x3.1mm, Pitch 0.65mm, Thermal Pad 2.162x1.932mm, IPC Low Density)
pins: 1 TG (out) "High Side Gate Driver Output (Top Gate). This pin swings between TS and BOOST.", 2 TS "High Side MOSFET Source Connection (TopSource)", 3 BG (out) "Low Side Gate Driver Output (Bottom Gate).This pin swings between VCC and GND.", 4 GND (power) "Chip Ground.", 5 IN (in) "Input Signal. Input referenced to an internal supply baised off of VLOGIC (Pin 6) and GND. If this pin is floating, an internal resistive divider triggers a shutdown mode in which both BG (Pin 3) and TG (Pin 1) are pulled (See Datasheet)", 6 VLOGIC (power) "Logic Supply. This pin powers the input buffer and logic. Connect this pin to the power supply of the controller that is driving IN (Pin 5) to match input thresholds or to VCC (Pin 7) to simplify PCB routing", 7 VCC (power) "Output Driver Supply. This pin powers the low side gate driver output directly and the high side gate driver output through an external Schottky diode connected between this pin and BOOST. A low ESR ceramic bypass capacitor (See Datasheet)", 8 BOOST "High Side Bootstrapped Supply. An external capacitor should be tied between this pin and TS (Pin 2). Normally an external Schottky diode is connected between VCC (Pin 7) and this pin. Voltage swing at this pin is from VCC - (See Datasheet)", 9 EP (power) "The exposed pad must be soldered to PCB ground for optimal electrical and thermal performance"

## LTC4442EMS8E#TRPBF
designator U?
High Speed Synchronous N-Channel MOSFET Driver, 3.2 V Undervoltage Lockout Threshold, 38 V Vin MAX, 8-pin SOP (MS8E-8), -40 to 85 degC, Pb-Free, Tape and Reel; Manufacturer: Linear Technology; PartNumber: LTC4442EMS8E#TRPBF; DatasheetVersion: Rev. B; PackageVersion: Rev. E; PackageReference: MS8E-8; PackageDescription: 8-Pin Plastic MSOP, Exposed Die Pad, Body 3 x 3 mm, Pitch 0.65 mm; Supplier 1: Digi-Key; Supplier Part Number 1: LTC4442EMS8E#TRPBF-ND; Packing: Tape and Reel; RoHS: TRUE; Mounting Technology: Surface Mount; ComponentLink1Description: Manufacturer URL; ComponentLink1URL: http://www.linear.com/; ComponentLink2Description: Datasheet; ComponentLink2URL: http://cds.linear.com/docs/en/datasheet/4442fb.pdf; ComponentLink3Description: Package Specification; ComponentLink3URL: http://cds.linear.com/docs/en/datasheet/4070fc.pdf
footprint LT-MS8E-8-2060X1830TP_N (SOP, 8-Leads, Body 3.1x3.1mm, Pitch 0.65mm, Thermal Pad 2.162x1.932mm, IPC Medium Density)
footprint LT-MS8E-8-2060X1830TP_L (SOP, 8-Leads, Body 3.1x3.1mm, Pitch 0.65mm, Thermal Pad 2.162x1.932mm, IPC High Density)
footprint LT-MS8E-8-2060X1830TP_M (SOP, 8-Leads, Body 3.1x3.1mm, Pitch 0.65mm, Thermal Pad 2.162x1.932mm, IPC Low Density)
pins: 1 TG (out) "High Side Gate Driver Output (Top Gate). This pin swings between TS and BOOST.", 2 TS "High Side MOSFET Source Connection (TopSource)", 3 BG (out) "Low Side Gate Driver Output (Bottom Gate).This pin swings between VCC and GND.", 4 GND (power) "Chip Ground.", 5 IN (in) "Input Signal. Input referenced to an internal supply baised off of VLOGIC (Pin 6) and GND. If this pin is floating, an internal resistive divider triggers a shutdown mode in which both BG (Pin 3) and TG (Pin 1) are pulled (See Datasheet)", 6 VLOGIC (power) "Logic Supply. This pin powers the input buffer and logic. Connect this pin to the power supply of the controller that is driving IN (Pin 5) to match input thresholds or to VCC (Pin 7) to simplify PCB routing", 7 VCC (power) "Output Driver Supply. This pin powers the low side gate driver output directly and the high side gate driver output through an external Schottky diode connected between this pin and BOOST. A low ESR ceramic bypass capacitor (See Datasheet)", 8 BOOST "High Side Bootstrapped Supply. An external capacitor should be tied between this pin and TS (Pin 2). Normally an external Schottky diode is connected between VCC (Pin 7) and this pin. Voltage swing at this pin is from VCC - (See Datasheet)", 9 EP (power) "The exposed pad must be soldered to PCB ground for optimal electrical and thermal performance"

## LTC4442EMS8E-1#PBF
designator U?
High Speed Synchronous N-Channel MOSFET Driver, 6.2 V Undervoltage Lockout Threshold, 38 V Vin MAX, 8-pin SOP (MS8E-8), -40 to 85 degC, Pb-Free; Manufacturer: Linear Technology; PartNumber: LTC4442EMS8E-1#PBF; DatasheetVersion: Rev. B; PackageVersion: Rev. E; PackageReference: MS8E-8; PackageDescription: 8-Pin Plastic MSOP, Exposed Die Pad, Body 3 x 3 mm, Pitch 0.65 mm; Supplier 1: Digi-Key; Supplier Part Number 1: LTC4442EMS8E-1#PBF-ND; RoHS: TRUE; Mounting Technology: Surface Mount; ComponentLink1Description: Manufacturer URL; ComponentLink1URL: http://www.linear.com/; ComponentLink2Description: Datasheet; ComponentLink2URL: http://cds.linear.com/docs/en/datasheet/4442fb.pdf; ComponentLink3Description: Package Specification; ComponentLink3URL: http://cds.linear.com/docs/en/datasheet/4070fc.pdf
footprint LT-MS8E-8-2060X1830TP_N (SOP, 8-Leads, Body 3.1x3.1mm, Pitch 0.65mm, Thermal Pad 2.162x1.932mm, IPC Medium Density)
footprint LT-MS8E-8-2060X1830TP_L (SOP, 8-Leads, Body 3.1x3.1mm, Pitch 0.65mm, Thermal Pad 2.162x1.932mm, IPC High Density)
footprint LT-MS8E-8-2060X1830TP_M (SOP, 8-Leads, Body 3.1x3.1mm, Pitch 0.65mm, Thermal Pad 2.162x1.932mm, IPC Low Density)
pins: 1 TG (out) "High Side Gate Driver Output (Top Gate). This pin swings between TS and BOOST.", 2 TS "High Side MOSFET Source Connection (TopSource)", 3 BG (out) "Low Side Gate Driver Output (Bottom Gate).This pin swings between VCC and GND.", 4 GND (power) "Chip Ground.", 5 IN (in) "Input Signal. Input referenced to an internal supply baised off of VLOGIC (Pin 6) and GND. If this pin is floating, an internal resistive divider triggers a shutdown mode in which both BG (Pin 3) and TG (Pin 1) are pulled (See Datasheet)", 6 VLOGIC (power) "Logic Supply. This pin powers the input buffer and logic. Connect this pin to the power supply of the controller that is driving IN (Pin 5) to match input thresholds or to VCC (Pin 7) to simplify PCB routing", 7 VCC (power) "Output Driver Supply. This pin powers the low side gate driver output directly and the high side gate driver output through an external Schottky diode connected between this pin and BOOST. A low ESR ceramic bypass capacitor (See Datasheet)", 8 BOOST "High Side Bootstrapped Supply. An external capacitor should be tied between this pin and TS (Pin 2). Normally an external Schottky diode is connected between VCC (Pin 7) and this pin. Voltage swing at this pin is from VCC - (See Datasheet)", 9 EP (power) "The exposed pad must be soldered to PCB ground for optimal electrical and thermal performance"

## LTC4442EMS8E-1#TRPBF
designator U?
High Speed Synchronous N-Channel MOSFET Driver, 6.2 V Undervoltage Lockout Threshold, 38 V Vin MAX, 8-pin SOP (MS8E-8), -40 to 85 degC, Pb-Free, Tape and Reel; Manufacturer: Linear Technology; PartNumber: LTC4442EMS8E-1#TRPBF; DatasheetVersion: Rev. B; PackageVersion: Rev. E; PackageReference: MS8E-8; PackageDescription: 8-Pin Plastic MSOP, Exposed Die Pad, Body 3 x 3 mm, Pitch 0.65 mm; Supplier 1: Digi-Key; Supplier Part Number 1: LTC4442EMS8E-1#TRPBF-ND; Packing: Tape and Reel; RoHS: TRUE; Mounting Technology: Surface Mount; ComponentLink1Description: Manufacturer URL; ComponentLink1URL: http://www.linear.com/; ComponentLink2Description: Datasheet; ComponentLink2URL: http://cds.linear.com/docs/en/datasheet/4442fb.pdf; ComponentLink3Description: Package Specification; ComponentLink3URL: http://cds.linear.com/docs/en/datasheet/4070fc.pdf
footprint LT-MS8E-8-2060X1830TP_N (SOP, 8-Leads, Body 3.1x3.1mm, Pitch 0.65mm, Thermal Pad 2.162x1.932mm, IPC Medium Density)
footprint LT-MS8E-8-2060X1830TP_L (SOP, 8-Leads, Body 3.1x3.1mm, Pitch 0.65mm, Thermal Pad 2.162x1.932mm, IPC High Density)
footprint LT-MS8E-8-2060X1830TP_M (SOP, 8-Leads, Body 3.1x3.1mm, Pitch 0.65mm, Thermal Pad 2.162x1.932mm, IPC Low Density)
pins: 1 TG (out) "High Side Gate Driver Output (Top Gate). This pin swings between TS and BOOST.", 2 TS "High Side MOSFET Source Connection (TopSource)", 3 BG (out) "Low Side Gate Driver Output (Bottom Gate).This pin swings between VCC and GND.", 4 GND (power) "Chip Ground.", 5 IN (in) "Input Signal. Input referenced to an internal supply baised off of VLOGIC (Pin 6) and GND. If this pin is floating, an internal resistive divider triggers a shutdown mode in which both BG (Pin 3) and TG (Pin 1) are pulled (See Datasheet)", 6 VLOGIC (power) "Logic Supply. This pin powers the input buffer and logic. Connect this pin to the power supply of the controller that is driving IN (Pin 5) to match input thresholds or to VCC (Pin 7) to simplify PCB routing", 7 VCC (power) "Output Driver Supply. This pin powers the low side gate driver output directly and the high side gate driver output through an external Schottky diode connected between this pin and BOOST. A low ESR ceramic bypass capacitor (See Datasheet)", 8 BOOST "High Side Bootstrapped Supply. An external capacitor should be tied between this pin and TS (Pin 2). Normally an external Schottky diode is connected between VCC (Pin 7) and this pin. Voltage swing at this pin is from VCC - (See Datasheet)", 9 EP (power) "The exposed pad must be soldered to PCB ground for optimal electrical and thermal performance"

## LTC4442IMS8E#PBF
designator U?
High Speed Synchronous N-Channel MOSFET Driver, 3.2 V Undervoltage Lockout Threshold, 38 V Vin MAX, 8-pin SOP (MS8E-8), -40 to 85 degC, Pb-Free; Manufacturer: Linear Technology; PartNumber: LTC4442IMS8E#PBF; DatasheetVersion: Rev. B; PackageVersion: Rev. E; PackageReference: MS8E-8; PackageDescription: 8-Pin Plastic MSOP, Exposed Die Pad, Body 3 x 3 mm, Pitch 0.65 mm; Supplier 1: Digi-Key; Supplier Part Number 1: LTC4442IMS8E#PBF-ND; RoHS: TRUE; Mounting Technology: Surface Mount; ComponentLink1Description: Manufacturer URL; ComponentLink1URL: http://www.linear.com/; ComponentLink2Description: Datasheet; ComponentLink2URL: http://cds.linear.com/docs/en/datasheet/4442fb.pdf; ComponentLink3Description: Package Specification; ComponentLink3URL: http://cds.linear.com/docs/en/datasheet/4070fc.pdf
footprint LT-MS8E-8-2060X1830TP_N (SOP, 8-Leads, Body 3.1x3.1mm, Pitch 0.65mm, Thermal Pad 2.162x1.932mm, IPC Medium Density)
footprint LT-MS8E-8-2060X1830TP_L (SOP, 8-Leads, Body 3.1x3.1mm, Pitch 0.65mm, Thermal Pad 2.162x1.932mm, IPC High Density)
footprint LT-MS8E-8-2060X1830TP_M (SOP, 8-Leads, Body 3.1x3.1mm, Pitch 0.65mm, Thermal Pad 2.162x1.932mm, IPC Low Density)
pins: 1 TG (out) "High Side Gate Driver Output (Top Gate). This pin swings between TS and BOOST.", 2 TS "High Side MOSFET Source Connection (TopSource)", 3 BG (out) "Low Side Gate Driver Output (Bottom Gate).This pin swings between VCC and GND.", 4 GND (power) "Chip Ground.", 5 IN (in) "Input Signal. Input referenced to an internal supply baised off of VLOGIC (Pin 6) and GND. If this pin is floating, an internal resistive divider triggers a shutdown mode in which both BG (Pin 3) and TG (Pin 1) are pulled (See Datasheet)", 6 VLOGIC (power) "Logic Supply. This pin powers the input buffer and logic. Connect this pin to the power supply of the controller that is driving IN (Pin 5) to match input thresholds or to VCC (Pin 7) to simplify PCB routing", 7 VCC (power) "Output Driver Supply. This pin powers the low side gate driver output directly and the high side gate driver output through an external Schottky diode connected between this pin and BOOST. A low ESR ceramic bypass capacitor (See Datasheet)", 8 BOOST "High Side Bootstrapped Supply. An external capacitor should be tied between this pin and TS (Pin 2). Normally an external Schottky diode is connected between VCC (Pin 7) and this pin. Voltage swing at this pin is from VCC - (See Datasheet)", 9 EP (power) "The exposed pad must be soldered to PCB ground for optimal electrical and thermal performance"

## LTC4442IMS8E#TRPBF
designator U?
High Speed Synchronous N-Channel MOSFET Driver, 3.2 V Undervoltage Lockout Threshold, 38 V Vin MAX, 8-pin SOP (MS8E-8), -40 to 85 degC, Pb-Free, Tape and Reel; Manufacturer: Linear Technology; PartNumber: LTC4442IMS8E#TRPBF; DatasheetVersion: Rev. B; PackageVersion: Rev. E; PackageReference: MS8E-8; PackageDescription: 8-Pin Plastic MSOP, Exposed Die Pad, Body 3 x 3 mm, Pitch 0.65 mm; Supplier 1: Digi-Key; Supplier Part Number 1: LTC4442IMS8E#TRPBF-ND; Packing: Tape and Reel; RoHS: TRUE; Mounting Technology: Surface Mount; ComponentLink1Description: Manufacturer URL; ComponentLink1URL: http://www.linear.com/; ComponentLink2Description: Datasheet; ComponentLink2URL: http://cds.linear.com/docs/en/datasheet/4442fb.pdf; ComponentLink3Description: Package Specification; ComponentLink3URL: http://cds.linear.com/docs/en/datasheet/4070fc.pdf
footprint LT-MS8E-8-2060X1830TP_N (SOP, 8-Leads, Body 3.1x3.1mm, Pitch 0.65mm, Thermal Pad 2.162x1.932mm, IPC Medium Density)
footprint LT-MS8E-8-2060X1830TP_L (SOP, 8-Leads, Body 3.1x3.1mm, Pitch 0.65mm, Thermal Pad 2.162x1.932mm, IPC High Density)
footprint LT-MS8E-8-2060X1830TP_M (SOP, 8-Leads, Body 3.1x3.1mm, Pitch 0.65mm, Thermal Pad 2.162x1.932mm, IPC Low Density)
pins: 1 TG (out) "High Side Gate Driver Output (Top Gate). This pin swings between TS and BOOST.", 2 TS "High Side MOSFET Source Connection (TopSource)", 3 BG (out) "Low Side Gate Driver Output (Bottom Gate).This pin swings between VCC and GND.", 4 GND (power) "Chip Ground.", 5 IN (in) "Input Signal. Input referenced to an internal supply baised off of VLOGIC (Pin 6) and GND. If this pin is floating, an internal resistive divider triggers a shutdown mode in which both BG (Pin 3) and TG (Pin 1) are pulled (See Datasheet)", 6 VLOGIC (power) "Logic Supply. This pin powers the input buffer and logic. Connect this pin to the power supply of the controller that is driving IN (Pin 5) to match input thresholds or to VCC (Pin 7) to simplify PCB routing", 7 VCC (power) "Output Driver Supply. This pin powers the low side gate driver output directly and the high side gate driver output through an external Schottky diode connected between this pin and BOOST. A low ESR ceramic bypass capacitor (See Datasheet)", 8 BOOST "High Side Bootstrapped Supply. An external capacitor should be tied between this pin and TS (Pin 2). Normally an external Schottky diode is connected between VCC (Pin 7) and this pin. Voltage swing at this pin is from VCC - (See Datasheet)", 9 EP (power) "The exposed pad must be soldered to PCB ground for optimal electrical and thermal performance"